# Altium footprint library ic-package.PCBLIB: 75 footprints (part 1 of 5)
Each footprint in its own frame and in the unit in brackets; x right, y up, seen from the top. Pads: shape width x height; smd on the part's side, far side on the other; paste and mask are expansions set on the pad; w line width, h text height; cw(c..) or ccw(c..) is an arc to the next point about the centre after c.
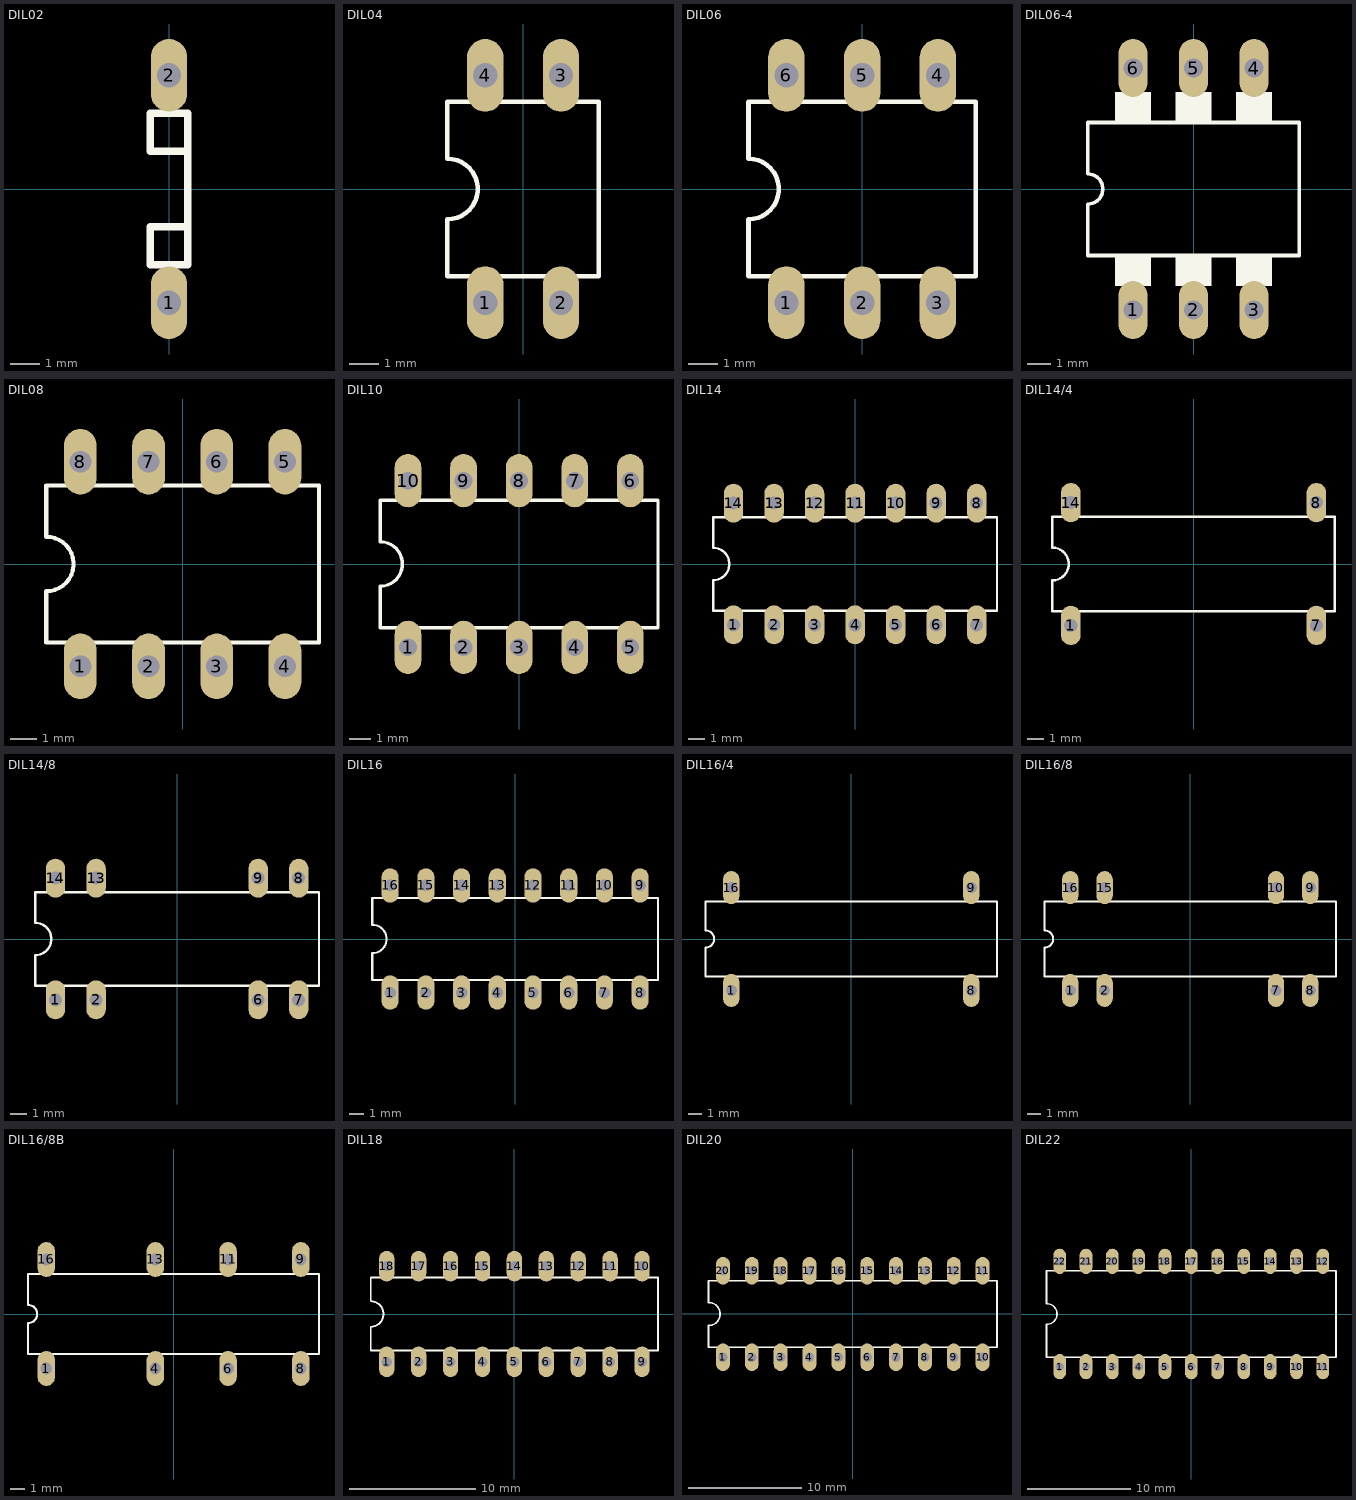
[diagram p0: the footprints below, top view; thin cyan lines are the x and y axes]

## DIL02 [mil]
pads (2):
  oval 48x96 hole 32: 1(0,-150) 2(0,150)
Top Overlay:
  lines w10: 25,-50 25,-100 -25,-100 -25,-50 25,-50 ; 25,-50 25,50 ; 25,50 -25,50 -25,100 25,100 25,50

## DIL04 [mil]
pads (4):
  oval 48x96 hole 32: 1(-50,-150) 2(50,-150) 3(50,150) 4(-50,150)
Top Overlay:
  lines w6: -100,-115 100,-115 100,115 -100,115 -100,40 cw(c-100,0) -100,-40 -100,-115

## DIL06 [mil]
pads (6):
  oval 48x96 hole 32: 1(-100,-150) 2(0,-150) 3(100,-150) 4(100,150) 5(0,150) 6(-100,150)
Top Overlay:
  lines w6: -150,-115 150,-115 150,115 -150,115 -150,40 cw(c-150,0) -150,-40 -150,-115

## DIL06-4 [mil]
pads (6):
  oval 48x96 hole 32: 1(-100,-200) 2(0,-200) 3(100,-200) 4(100,200) 5(0,200) 6(-100,200)
Top Overlay:
  rectangle: 70,-160 130,-110
  rectangle: -30,-160 30,-110
  rectangle: -130,-160 -70,-110
  rectangle: -130,110 -70,160
  rectangle: -30,110 30,160
  rectangle: 70,110 130,160
  lines w6: -175,-110 -175,-25 ccw(c-175,0) -175,25 -175,110 175,110 175,-110 -175,-110

## DIL08 [mil]
pads (8):
  oval 48x96 hole 32: 1(-150,-150) 2(-50,-150) 3(50,-150) 4(150,-150) 5(150,150) 6(50,150) 7(-50,150) 8(-150,150)
Top Overlay:
  lines w6: -200,-115 200,-115 200,115 -200,115 -200,40 cw(c-200,0) -200,-40 -200,-115

## DIL10 [mil]
pads (10):
  oval 48x96 hole 32: 1(-200,-150) 2(-100,-150) 3(0,-150) 4(100,-150) 5(200,-150) 6(200,150) 7(100,150) 8(0,150) 9(-100,150) 10(-200,150)
Top Overlay:
  lines w6: -250,-115 250,-115 250,115 -250,115 -250,40 cw(c-250,0) -250,-40 -250,-115

## DIL14 [mil]
pads (14):
  oval 48x96 hole 32: 1(-300,-150) 2(-200,-150) 3(-100,-150) 4(0,-150) 5(100,-150) 6(200,-150) 7(300,-150) 8(300,150) 9(200,150) 10(100,150) 11(0,150) 12(-100,150) 13(-200,150) 14(-300,150)
Top Overlay:
  lines w6: -350,-115 350,-115 350,115 -350,115 -350,40 cw(c-350,0) -350,-40 -350,-115

## DIL14/4 [mil]
pads (4):
  oval 48x96 hole 32: 1(-300,-150) 7(300,-150) 8(300,150) 14(-300,150)
Top Overlay:
  lines w6: -345,-115 345,-115 345,115 -345,115 -345,40 cw(c-345,0) -345,-40 -345,-115

## DIL14/8 [mil]
pads (8):
  oval 48x96 hole 32: 1(-300,-150) 2(-200,-150) 6(200,-150) 7(300,-150) 8(300,150) 9(200,150) 13(-200,150) 14(-300,150)
Top Overlay:
  lines w6: -350,-115 350,-115 350,115 -350,115 -350,40 cw(c-350,0) -350,-40 -350,-115

## DIL16 [mil]
pads (16):
  oval 48x96 hole 32: 1(-350,-150) 2(-250,-150) 3(-150,-150) 4(-50,-150) 5(50,-150) 6(150,-150) 7(250,-150) 8(350,-150) 9(350,150) 10(250,150) 11(150,150) 12(50,150) 13(-50,150) 14(-150,150) 15(-250,150) 16(-350,150)
Top Overlay:
  lines w6: -400,-115 400,-115 400,115 -400,115 -400,40 cw(c-400,0) -400,-40 -400,-115

## DIL16/4 [mil]
pads (4):
  oval 48x96 hole 32: 1(-350,-150) 8(350,-150) 9(350,150) 16(-350,150)
Top Overlay:
  lines w6: -425,-110 -425,-25 ccw(c-425,0) -425,25 -425,110 425,110 425,-110 -425,-110

## DIL16/8 [mil]
pads (8):
  oval 48x96 hole 32: 1(-350,-150) 2(-250,-150) 7(250,-150) 8(350,-150) 9(350,150) 10(250,150) 15(-250,150) 16(-350,150)
Top Overlay:
  lines w6: -425,-110 -425,-25 ccw(c-425,0) -425,25 -425,110 425,110 425,-110 -425,-110

## DIL16/8B [mil]
pads (8):
  oval 48x96 hole 32: 1(-350,-150) 4(-50,-150) 6(150,-150) 8(350,-150) 9(350,150) 11(150,150) 13(-50,150) 16(-350,150)
Top Overlay:
  lines w6: -400,-110 -400,-25 ccw(c-400,0) -400,25 -400,110 400,110 400,-110 -400,-110

## DIL18 [mil]
pads (18):
  oval 48x96 hole 32: 1(-400,-150) 2(-300,-150) 3(-200,-150) 4(-100,-150) 5(0,-150) 6(100,-150) 7(200,-150) 8(300,-150) 9(400,-150) 10(400,150) 11(300,150) 12(200,150) 13(100,150) 14(0,150) 15(-100,150) 16(-200,150) 17(-300,150) 18(-400,150)
Top Overlay:
  lines w6: -450,-115 450,-115 450,115 -450,115 -450,40 cw(c-450,0) -450,-40 -450,-115

## DIL20 [mil]
pads (20):
  oval 48x96 hole 32: 1(-450,-150) 2(-350,-150) 3(-250,-150) 4(-150,-150) 5(-50,-150) 6(50,-150) 7(150,-150) 8(250,-150) 9(350,-150) 10(450,-150) 11(450,150) 12(350,150) 13(250,150) 14(150,150) 15(50,150) 16(-50,150) 17(-150,150) 18(-250,150) 19(-350,150) 20(-450,150)
Top Overlay:
  lines w6: -500,-115 500,-115 500,115 -500,115 -500,40 cw(c-500,0) -500,-40 -500,-115

## DIL22 [mil]
pads (22):
  oval 48x96 hole 32: 1(-500,-200) 2(-400,-200) 3(-300,-200) 4(-200,-200) 5(-100,-200) 6(0,-200) 7(100,-200) 8(200,-200) 9(300,-200) 10(400,-200) 11(500,-200) 12(500,200) 13(400,200) 14(300,200) 15(200,200) 16(100,200) 17(0,200) 18(-100,200) 19(-200,200) 20(-300,200) 21(-400,200) 22(-500,200)
Top Overlay:
  lines w6: -550,-165 550,-165 550,165 -550,165 -550,40 cw(c-550,0) -550,-40 -550,-165